# Altium schematic symbol library pads16zl.SchLib: 3 symbols
Pins are listed as number, name and electrical type; pins without a type are passive.

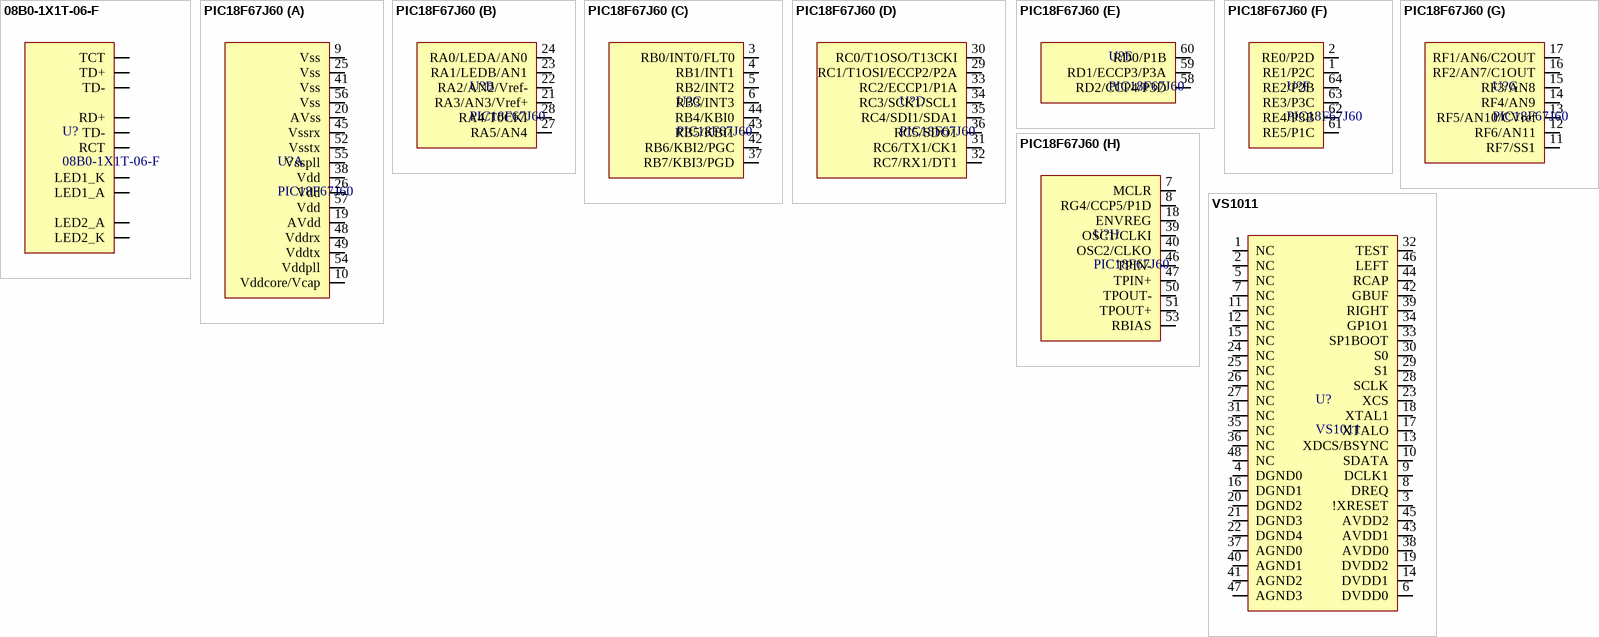
[diagram p0: symbols 08B0-1X1T-06-F to VS1011]

## 08B0-1X1T-06-F
designator U?
Supplier 1: Digikey; HELPURL: http://belfuse.com/pdfs/08B0-1X1T-06-F.pdf; Supplier Part Number 1: 507-1445-ND
footprint RJ45
pins: 1 TCT, 2 TD+, 3 TD-, 4 RD+, 5 TD-, 6 RCT, 7 LED1_K, 8 LED1_A, 9 LED2_A, 10 LED2_K

## PIC18F67J60
designator U?
HELPURL: http://ww1.microchip.com/downloads/en/DeviceDoc/39762f.pdf; Supplier 1: Digikey; Supplier Part Number 1: PIC18F67J60-I/PT-ND
footprint PIC18
part A pins: 9 Vss, 10 Vddcore/Vcap, 19 AVdd, 20 AVss, 25 Vss, 26 Vdd, 38 Vdd, 41 Vss, 45 Vssrx, 48 Vddrx, 49 Vddtx, 52 Vsstx, 54 Vddpll, 55 Vsspll, 56 Vss, 57 Vdd
part B pins: 21 RA3/AN3/Vref+, 22 RA2/AN2/Vref-, 23 RA1/LEDB/AN1, 24 RA0/LEDA/AN0, 27 RA5/AN4, 28 RA4/T0CKI
part C pins: 3 RB0/INT0/FLT0, 4 RB1/INT1, 5 RB2/INT2, 6 RB3/INT3, 37 RB7/KBI3/PGD, 42 RB6/KBI2/PGC, 43 RB5/KBI1, 44 RB4/KBI0
part D pins: 29 RC1/T1OSI/ECCP2/P2A, 30 RC0/T1OSO/T13CKI, 31 RC6/TX1/CK1, 32 RC7/RX1/DT1, 33 RC2/ECCP1/P1A, 34 RC3/SCK1/SCL1, 35 RC4/SDI1/SDA1, 36 RC5/SDO1
part E pins: 58 RD2/CCP4/P3D, 59 RD1/ECCP3/P3A, 60 RD0/P1B
part F pins: 1 RE1/P2C, 2 RE0/P2D, 61 RE5/P1C, 62 RE4/P3B, 63 RE3/P3C, 64 RE2/P2B
part G pins: 11 RF7/SS1, 12 RF6/AN11, 13 RF5/AN10/CVref, 14 RF4/AN9, 15 RF3/AN8, 16 RF2/AN7/C1OUT, 17 RF1/AN6/C2OUT
part H pins: 7 MCLR, 8 RG4/CCP5/P1D, 18 ENVREG, 39 OSC1/CLKI, 40 OSC2/CLKO, 46 TPIN-, 47 TPIN+, 50 TPOUT-, 51 TPOUT+, 53 RBIAS

## VS1011
designator U?
HELPURL: http://www.vlsi.fi/fileadmin/datasheets/vs1011.pdf
footprint LQFP-48
pins: 1 NC, 2 NC, 3 !XRESET, 4 DGND0, 5 NC, 6 DVDD0, 7 NC, 8 DREQ, 9 DCLK1, 10 SDATA, 11 NC, 12 NC, 13 XDCS/BSYNC, 14 DVDD1, 15 NC, 16 DGND1, 17 XTALO, 18 XTAL1, 19 DVDD2, 20 DGND2, 21 DGND3, 22 DGND4, 23 XCS, 24 NC, 25 NC, 26 NC, 27 NC, 28 SCLK, 29 S1, 30 S0, 31 NC, 32 TEST, 33 SP1BOOT, 34 GP1O1, 35 NC, 36 NC, 37 AGND0, 38 AVDD0, 39 RIGHT, 40 AGND1, 41 AGND2, 42 GBUF, 43 AVDD1, 44 RCAP, 45 AVDD2, 46 LEFT, 47 AGND3, 48 NC